# EAGLE library part CH7033B (library CH7033B)
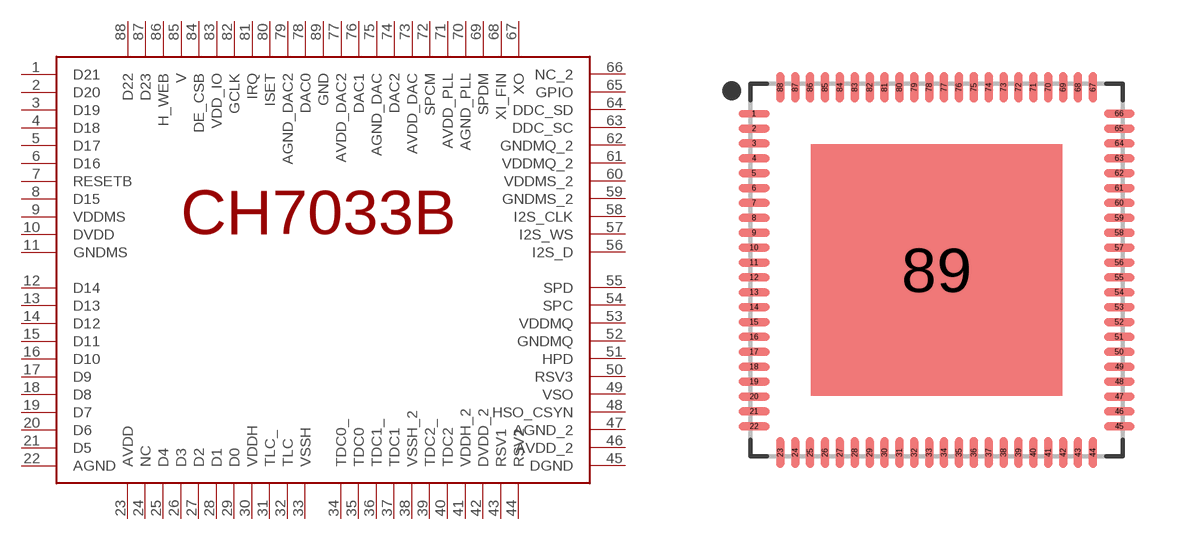
[diagram p0: symbol with the pads of CH7033B; footprint CH7033B]

Designator prefix -

## CH7033B  [CH7033B]
1  D21  in
2  D20  in
3  D19  in
4  D18  in
5  D17  in
6  D16  in
7  RESETB  in
8  D15  in
9  VDDMS  pwr
10  DVDD  pwr
11  GNDMS  pwr
12  D14  in
13  D13  in
14  D12  in
15  D11  in
16  D10  in
17  D9  in
18  D8  in
19  D7  in
20  D6  in
21  D5  in
22  AGND  pwr
23  AVDD  pwr
24  NC  nc
25  D4  in
26  D3  in
27  D2  in
28  D1  in
29  D0  in
30  VDDH  pwr
31  TLC_  out
32  TLC  out
33  VSSH  pwr
34  TDC0_  out
35  TDC0  out
36  TDC1_  out
37  TDC1  out
38  VSSH_2  pwr
39  TDC2_  out
40  TDC2  out
41  VDDH_2  pwr
42  DVDD_2  pwr
43  RSV1  in
44  RSV2  in
45  DGND  pwr
46  AVDD_2  pwr
47  AGND_2  pwr
48  HSO_CSYN
49  VSO
50  RSV3
51  HPD
52  GNDMQ  pwr
53  VDDMQ  pwr
54  SPC
55  SPD
56  I2S_D
57  I2S_WS
58  I2S_CLK
59  GNDMS_2  pwr
60  VDDMS_2  pwr
61  VDDMQ_2  pwr
62  GNDMQ_2  pwr
63  DDC_SC
64  DDC_SD
65  GPIO
66  NC_2  nc
67  XO
68  XI_FIN
69  SPDM
70  AGND_PLL
71  AVDD_PLL
72  SPCM
73  AVDD_DAC
74  DAC2
75  AGND_DAC
76  DAC1
77  AVDD_DAC2
78  DAC0
79  AGND_DAC2
80  ISET
81  IRQ
82  GCLK
83  VDD_IO  pwr
84  DE_CSB
85  V
86  H_WEB
87  D23  in
88  D22  in
89  GND  pwr

## Footprint CH7033B (pad centres in mm)
88-QFN, 0.40 mm pitch, 9.95 X 9.95 X 0.90 mm body, 7.15 X 7.15 mm thermal pad 88-pin QFN package with 0.40 mm pitch with body size 9.95 X 9.95 X 0.90 mm and thermal pad size 7.15 X 7.15 mm
smd 0.835 x 0.2: 1 -4.907,4.2
smd 0.835 x 0.22: 2 -4.907,3.8; 3 -4.907,3.4; 4 -4.907,3; 5 -4.907,2.6; 6 -4.907,2.2; 7 -4.907,1.8; 8 -4.907,1.4; 9 -4.907,1; 10 -4.907,0.6; 11 -4.907,0.2; 12 -4.907,-0.2; 13 -4.907,-0.6; 14 -4.907,-1; 15 -4.907,-1.4; 16 -4.907,-1.8; 17 -4.907,-2.2; 18 -4.907,-2.6; 19 -4.907,-3; 20 -4.907,-3.4; 21 -4.907,-3.8; 22 -4.907,-4.2; 45 4.907,-4.2; 46 4.907,-3.8; 47 4.907,-3.4; 48 4.907,-3; 49 4.907,-2.6; 50 4.907,-2.2; 51 4.907,-1.8; 52 4.907,-1.4; 53 4.907,-1; 54 4.907,-0.6; 55 4.907,-0.2; 56 4.907,0.2; 57 4.907,0.6; 58 4.907,1; 59 4.907,1.4; 60 4.907,1.8; 61 4.907,2.2; 62 4.907,2.6; 63 4.907,3; 64 4.907,3.4; 65 4.907,3.8; 66 4.907,4.2
smd 0.22 x 0.835: 23 -4.2,-4.907; 24 -3.8,-4.907; 25 -3.4,-4.907; 26 -3,-4.907; 27 -2.6,-4.907; 28 -2.2,-4.907; 29 -1.8,-4.907; 30 -1.4,-4.907; 31 -1,-4.907; 32 -0.6,-4.907; 33 -0.2,-4.907; 34 0.2,-4.907; 35 0.6,-4.907; 36 1,-4.907; 37 1.4,-4.907; 38 1.8,-4.907; 39 2.2,-4.907; 40 2.6,-4.907; 41 3,-4.907; 42 3.4,-4.907; 43 3.8,-4.907; 44 4.2,-4.907; 67 4.2,4.907; 68 3.8,4.907; 69 3.4,4.907; 70 3,4.907; 71 2.6,4.907; 72 2.2,4.907; 73 1.8,4.907; 74 1.4,4.907; 75 1,4.907; 76 0.6,4.907; 77 0.2,4.907; 78 -0.2,4.907; 79 -0.6,4.907; 80 -1,4.907; 81 -1.4,4.907; 82 -1.8,4.907; 83 -2.2,4.907; 84 -2.6,4.907; 85 -3,4.907; 86 -3.4,4.907; 87 -3.8,4.907; 88 -4.2,4.907
smd 6.75 x 6.75: 89 0,0